# Altium footprint library SolarNode.PcbLib: 75 footprints (part 2 of 5)
Each footprint in its own frame and in the unit in brackets; x right, y up, seen from the top. Pads: shape width x height; smd on the part's side, far side on the other; paste and mask are expansions set on the pad; w line width, h text height; cw(c..) or ccw(c..) is an arc to the next point about the centre after c.
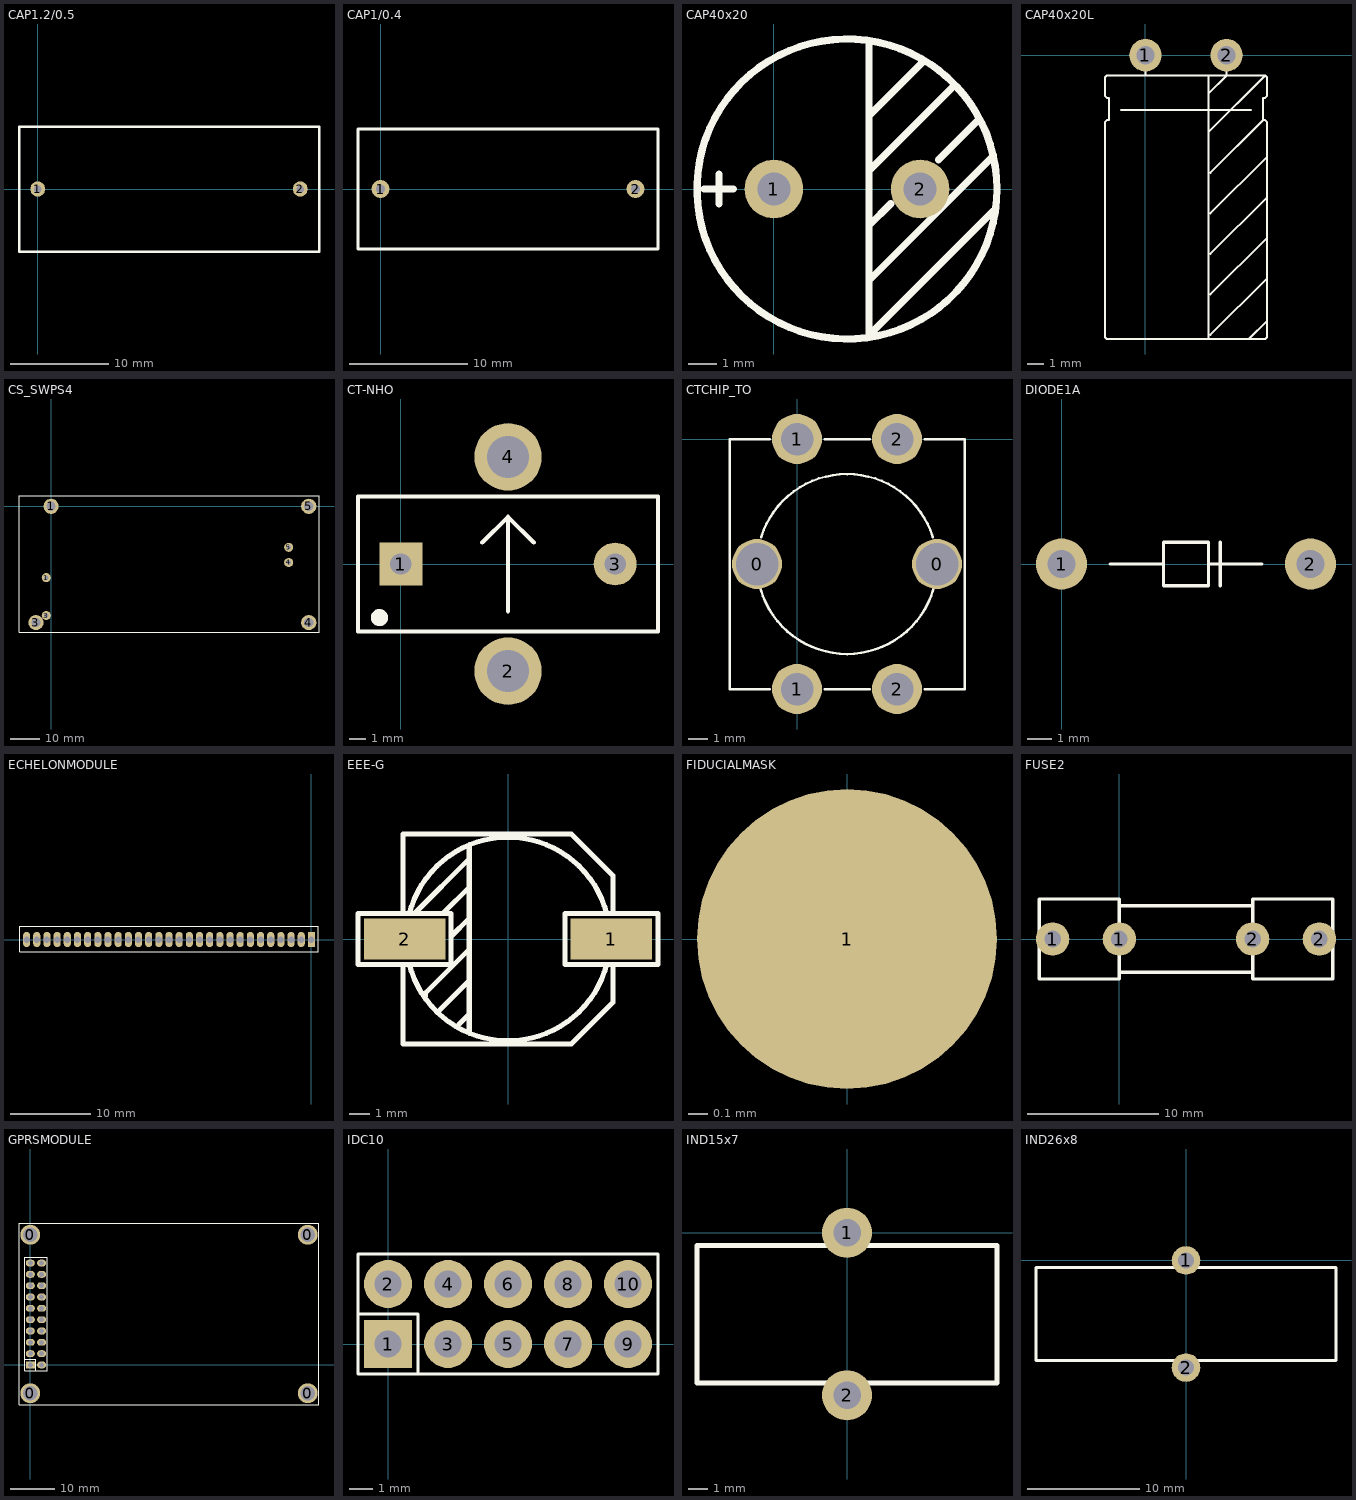
[diagram p1: the footprints below, top view; thin cyan lines are the x and y axes]

## CAP1.2/0.5 [mil]
pads (2):
  round 60 hole 30: 1(0,0) 2(1050,0)
Top Overlay:
  lines w10: -75,-250 -75,250 1125,250 1125,-250 -75,-250

## CAP1/0.4 [mil]
pads (2):
  round 60 hole 30: 1(0,0) 2(850,0)
Top Overlay:
  lines w10: -75,-200 925,-200 925,200 -75,200 -75,-200

## CAP40x20 [mil]
pads (2):
  round 80 hole 45: 1(0,0) 2(200,0)
Top Overlay:
  circle w10: c100,0 r205
  lines w10: -95,0 -55,0 ; -75,-20 -75,20 ; 130,-120 130,-125 300,45 ; 130,-50 160,-20 ; 130,25 245,140 ; 130,100 205,175 ; 130,200 130,-200 300,-30 ; 225,40 280,95

## CAP40x20L [mil]
pads (2):
  round 80 hole 45: 1(0,0) 2(200,0)
Top Overlay:
  lines w5: -60,-135 260,-135 ; 0,-50 0,-30 ; 155,-700 155,-50 ; 155,-190 295,-50 ; 155,-95 200,-50 200,-30 ; 160,-690 300,-550 ; 160,-590 300,-450 ; 160,-490 300,-350 ; 160,-390 300,-250 ; 160,-290 290,-160 ; 255,-700 300,-655 ; 290,-160 295,-160 300,-165 300,-695 295,-700 290,-700 -95,-700 -100,-695 -100,-690 -100,-165 -95,-160 -90,-160 -90,-105 -95,-105 -100,-100 -100,-55 -95,-50 -90,-50 295,-50 ; 290,-160 290,-105 295,-105 300,-100 300,-55 295,-50

## CS_SWPS4 [mil]
pads (8):
  round 120 hole 60: 1(-63.78,-941.73) 3(-63.78,-1441.73) 4(3136.22,-741.73) 5(3136.22,-541.73)
  round 200 hole 120: 1(0,0) 3(-200,-1535.43) 4(3400.79,-1535.43) 5(3400.79,0)
Top Overlay:
  lines w5: -423.78,-1661.73 -423.78,138.27 3536.22,138.27 3536.22,-1661.73 -423.78,-1661.73

## CT-NHO [mm]
pads (4):
  rect 2.54x2.54 hole 1.27: 1(0,0)
  round 4 hole 2.5: 2(6.35,-6.35) 4(6.35,6.35)
  round 2.54 hole 1.27: 3(12.7,0)
Top Overlay:
  circle w0.508: c-1.27,-3.175 r0.254
  lines w0.254: 4.826,1.27 6.35,2.794 ; 6.35,-2.794 6.35,2.794 ; 7.874,1.27 6.35,2.794 ; -2.54,-4 -2.54,4 15.24,4 15.24,-4 -2.54,-4

## CTCHIP_TO [mil]
pads (6):
  round 100 hole 85: 0(-80,-250) 0(280,-250)
  round 100 hole 65: 1(0,-500) 1(0,0) 2(200,-500) 2(200,0)
Top Overlay:
  lines w5: -72.69,-300.79 ccw(c100,-250) 272.69,-300.79 ; -71.72,-196.03 cw(c100,-250) 271.72,-196.03 ; -55,-500 -135,-500 -135,0 -55,0 ; 55,-500 145,-500 ; 55,0 145,0 ; 255,-500 335,-500 335,0 255,0

## DIODE1A [mil]
pads (2):
  round 82 hole 45: 1(0,0) 2(400,0)
Top Overlay:
  lines w5: 78,0 164,0 ; 236,0 322,0 ; 255,-35 255,35 ; 164,0 164,35 236,35 236,-35 164,-35 164,0

## ECHELONMODULE [mil]
height 179.92
pads (29):
  rect 35x75 hole 32: 1(0,0)
  oval 35x75 hole 32: 2(-50,0) 3(-100,0) 4(-150,0) 5(-200,0) 6(-250,0) 7(-300,0) 8(-350,0) 9(-400,0) 10(-450,0) 11(-500,0) 12(-550,0) 13(-600,0) 14(-650,0) 15(-700,0) 16(-750,0) 17(-800,0) 18(-850,0) 19(-900,0) 20(-950,0) 21(-1000,0) 22(-1050,0) 23(-1100,0) 24(-1150,0) 25(-1200,0) 26(-1250,0) 27(-1300,0) 28(-1350,0) 29(-1400,0)
Top Overlay:
  lines w5: -1435,-60 -1435,65 35,65 35,-60 -1435,-60

## EEE-G [mm] "aluminum Electrolytic Capacitor 10mm X 10mm"
pads (2):
  rect 4x2 smd: 1(5.08,0) 2(-5.08,0)
Top Overlay:
  lines w0.254: -5.15,-1.311 -5.15,-5.15 3.105,-5.15 5.15,-3.105 5.15,-1.327 ; -5.15,1.327 -5.15,5.15 3.105,5.15 5.15,3.105 5.15,1.254 ; -4.839,-1.257 ccw(c0,0) 4.839,-1.257 ; -4.839,1.257 cw(c0,0) 4.839,1.257 ; -4.572,1.27 -1.905,3.937 ; -4.064,-2.794 -4.064,-2.667 -1.905,-0.508 ; -3.429,-3.556 -1.905,-2.032 ; -3.175,1.27 -1.905,2.54 ; -2.794,0.127 -1.905,1.016 ; -2.413,-4.191 -1.905,-3.683 ; -1.905,-4.572 -1.905,4.572 ; -7.366,-1.254 -2.794,-1.254 -2.794,1.254 -7.366,1.254 -7.366,-1.254 ; 2.794,-1.254 2.794,1.254 7.366,1.254 7.366,-1.254 2.794,-1.254

## FIDUCIALMASK [mil]
pads (1):
  round 60 all layers, no hole: 1(0,0)

## FUSE2 [mil]
pads (4):
  round 100 hole 50: 1(-200,0) 1(0,0) 2(400,0) 2(600,0)
Top Overlay:
  lines w10: 0,-100 0,100 ; 0,-100 400,-100 ; 0,-100 0,-120 -240,-120 -240,120 0,120 0,100 ; 0,100 400,100 ; 400,-100 400,100 ; 400,-100 400,-120 640,-120 640,120 400,120 400,100

## GPRSMODULE [mil]
pads (24):
  round 175 hole 125: 0(0,-250) 0(0,1150) 0(2450,-250) 0(2450,1150)
  rect 80x60 hole 45: 1(0,0)
  oval 80x60 hole 45: 2(100,0) 3(0,100) 4(100,100) 5(0,200) 6(100,200) 7(0,300) 8(100,300) 9(0,400) 10(100,400) 11(0,500) 12(100,500) 13(0,600) 14(100,600) 15(0,700) 16(100,700) 17(0,800) 18(100,800) 19(0,900) 20(100,900)
Top Overlay:
  lines w5: -50,50 50,50 50,-50 ; -100,-350 -100,1250 2550,1250 2550,-350 -100,-350 ; -50,-50 150,-50 150,950 -50,950 -50,-50

## IDC10 [mil]
pads (10):
  rect 80x80 hole 45: 1(0,0)
  round 80 hole 45: 2(0,100) 3(100,0) 4(100,100) 5(200,0) 6(200,100) 7(300,0) 8(300,100) 9(400,0) 10(400,100)
Top Overlay:
  lines w5: -50,50 50,50 50,-50 ; -50,-50 -50,150 450,150 450,-50 -50,-50

## IND15x7 [mil]
pads (2):
  round 100 hole 55: 1(0,0) 2(0,-325)
Top Overlay:
  lines w10: -300,-300 300,-300 300,-25 -300,-25 -300,-300

## IND26x8 [mil]
pads (2):
  round 100 hole 55: 1(0,0) 2(0,-375)
Top Overlay:
  lines w10: -525,-350 -525,-25 525,-25 525,-350 -525,-350